# Altium integrated library ADUM3160BRWZ.IntLib: 1 symbol
Pins are listed as number, name and electrical type; pins without a type are passive.

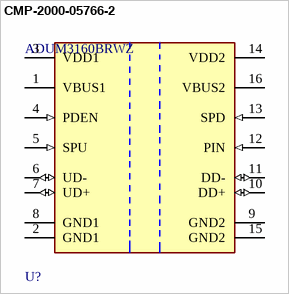
[diagram p0: symbol CMP-2000-05766-2]

## CMP-2000-05766-2
designator U?, comment ADUM3160BRWZ
DGT ISOL 2500VRMS 2CH USB 16SOIC; Rise Time: 1ms; Max Input Current: 8mA; Isolation Voltage: 2.5kV; Number of Channels: 2; Isolated Power: No; Nominal Supply Current: 6mA; Min Supply Voltage: 4V; Channel Type: Bidirectional; Propagation Delay: 70ns; Max Supply Voltage: 5.5V; Data Rate: 12Mbps; Case/Package: SOIC; Width: 7.6mm; Lead Free: Contains Lead; Number of Pins: 16; Depth: 2.35mm; Length: 10.5mm; Mount: Surface Mount; Contact Plating: Tin; Package Quantity: 47; Packaging: Rail/Tube; Number of Input Lines: 2; Min Operating Temperature: -40°C; Max Operating Temperature: 105°C; REACH SVHC: No SVHC; Turn-On Delay Time: 70ns
footprint FP-RW-16-IPC_B
footprint FP-RW-16-IPC_C
footprint FP-RW-16-IPC_A
pins: 1 VBUS1 (power), 2 GND1 (power), 3 VDD1 (power), 4 PDEN (in), 5 SPU (in), 6 UD- (io), 7 UD+ (io), 8 GND1 (power), 9 GND2 (power), 10 DD+ (io), 11 DD- (io), 12 PIN (in), 13 SPD (in), 14 VDD2 (power), 15 GND2 (power), 16 VBUS2 (power)